# EAGLE library part M07 (library Skoba)
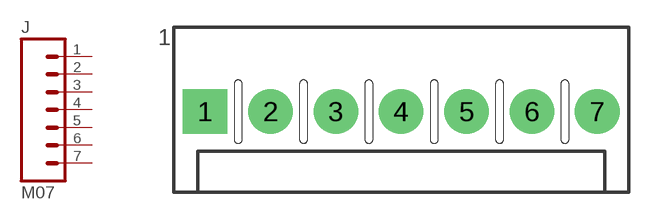
[diagram p54: symbol with the pads of MOLEX-1X7-3.96MM; footprint MOLEX-1X7-3.96MM]

Designator prefix J

## M07-MOLEX-5.08MM-WIDE-ATTRS  [MOLEX-1X7-3.96MM]
1  1  pas
2  2  pas
3  3  pas
4  4  pas
5  5  pas
6  6  pas
7  7  pas

## Footprint MOLEX-1X7-3.96MM (pad centres in mm)
drill 1.7 pad 2.7 square: 1 0,0
drill 1.7 pad 2.7: 2 3.96,0; 3 7.92,0; 4 11.88,0; 5 15.84,0; 6 19.8,0; 7 23.76,0